# EAGLE library part USB6B1 (library st-microelectronics)
DATA LINES PROTECTION Source: http://www.st.com/stonline/products/literature/ds/5605.pdf
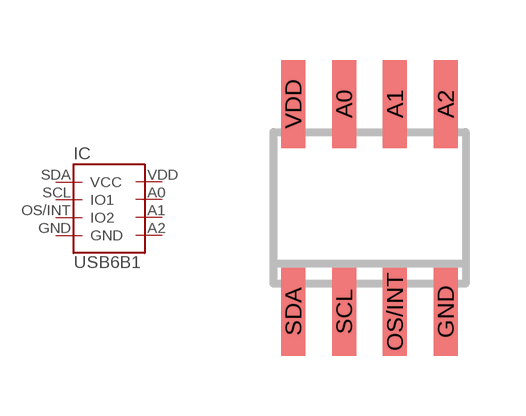
[diagram p37: symbol with the pads of SO08; footprint SO08]

Designator prefix IC

## USB6B1 (MPN: USB6B1; OC_FARNELL: 9804358; OC_NEWARK: 26M4750)  [SO08]
A0  IO1
A1  IO2
A2  GND  pwr
GND  GND  pwr
OS/INT  IO2
SCL  IO1
SDA  VCC  pwr
VDD  VCC  pwr

## Footprint SO08 (pad centres in mm)
SMALL OUTLINE INTEGRATED CIRCUIT body 3.9 mm/JEDEC MS-012AA
smd 0.6 x 2.2: A0 -0.635,2.6; A1 0.635,2.6; A2 1.905,2.6; GND 1.905,-2.6; OS/INT 0.635,-2.6; SCL -0.635,-2.6; SDA -1.905,-2.6; VDD -1.905,2.6